# Altium schematic symbol library tinyCLUNX33.SchLib: 4 symbols
Pins are listed as number, name and electrical type; pins without a type are passive.

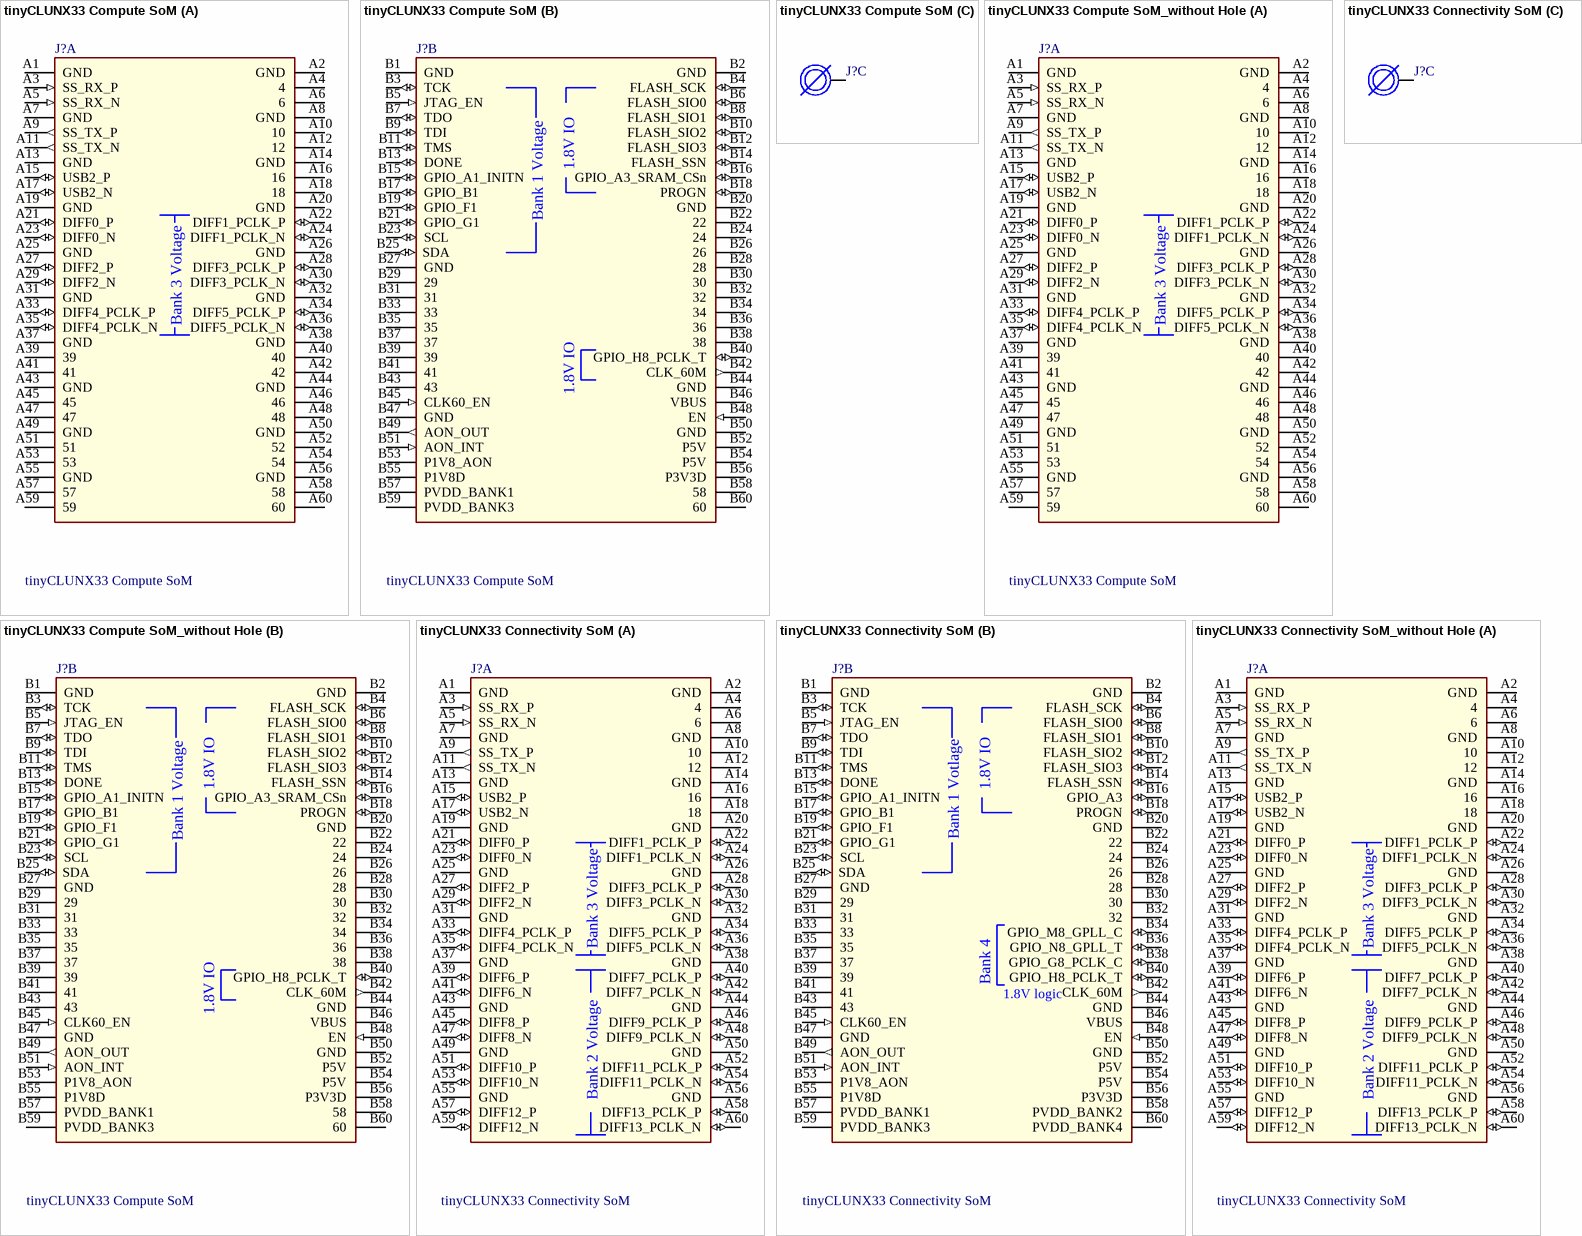
[diagram p0: symbols tinyCLUNX33 Compute SoM to tinyCLUNX33 Connectivity SoM_without Hole]

## tinyCLUNX33 Compute SoM
designator J?
Manufacturer: Hirose; Manufacturer Part Number: DF40C-60DS-0.4V(51); Connector Type: Receptacle; Number of Positions: 60; Current Rating: 300mA; Voltage Rating: 30V; Pitch: 0.4mm; Mated Stacking Heights: 1.5mm; Supplier 1: Digi-Key; Supplier Part Number 1: 26-DF40C-60DS-0.4V(51)CT-ND; RoHS: Yes; Category: Headers and Wire Housings; Stock: 11621; Pricing: 1=1.29000, 10=1.08900, 25=1.04440, 50=1.02220, 100=0.97770, 250=0.88880, 500=0.79992, 1000=0.71104, 2500=0.64438 (USD); Mounting Technology: Surface Mount; Contact Plating: Gold; Contact Material: Bronze; Housing Material: Polymer; Package Quantity: 5000; Number of Rows: 2; Packaging: Tape and Reel; Series: DF40; Termination: SMD/SMT; Number of Contacts: 60; Gender: Receptacle; RoHS Compliant: Yes; Lead Free: Lead Free; Reach SVHC Compliant: No; Quantity: 2
footprint SoM Compute
part A pins: A1 GND, A2 GND, A3 SS_RX_P (in), A4 4, A5 SS_RX_N (in), A6 6, A7 GND, A8 GND, A9 SS_TX_P (out), A10 10, A11 SS_TX_N (out), A12 12, A13 GND, A14 GND, A15 USB2_P (io), A16 16, A17 USB2_N (io), A18 18, A19 GND, A20 GND, A21 DIFF0_P (io), A22 DIFF1_PCLK_P (io), A23 DIFF0_N (io), A24 DIFF1_PCLK_N (io), A25 GND, A26 GND, A27 DIFF2_P (io), A28 DIFF3_PCLK_P (io), A29 DIFF2_N (io), A30 DIFF3_PCLK_N (io), A31 GND, A32 GND, A33 DIFF4_PCLK_P (io), A34 DIFF5_PCLK_P (io), A35 DIFF4_PCLK_N (io), A36 DIFF5_PCLK_N (io), A37 GND, A38 GND, A39 39, A40 40, A41 41, A42 42, A43 GND, A44 GND, A45 45, A46 46, A47 47, A48 48, A49 GND, A50 GND, A51 51, A52 52, A53 53, A54 54, A55 GND, A56 GND, A57 57, A58 58, A59 59, A60 60
part B pins: B1 GND, B2 GND, B3 TCK (io), B4 FLASH_SCK (io), B5 JTAG_EN (in), B6 FLASH_SIO0 (io), B7 TDO (io), B8 FLASH_SIO1 (io), B9 TDI (io), B10 FLASH_SIO2 (io), B11 TMS (io), B12 FLASH_SIO3 (io), B13 DONE (io), B14 FLASH_SSN (io), B15 GPIO_A1_INITN (io), B16 GPIO_A3_SRAM_CSn (io), B17 GPIO_B1 (io), B18 PROGN (io), B19 GPIO_F1 (io), B20 GND, B21 GPIO_G1 (io), B22 22, B23 SCL (io), B24 24, B25 SDA (io), B26 26, B27 GND, B28 28, B29 29, B30 30, B31 31, B32 32, B33 33, B34 34, B35 35, B36 36, B37 37, B38 38, B39 39, B40 GPIO_H8_PCLK_T (io), B41 41, B42 CLK_60M (out), B43 43, B44 GND, B45 CLK60_EN (in), B46 VBUS (power), B47 GND, B48 EN (in), B49 AON_OUT (out), B50 GND, B51 AON_INT (in), B52 P5V (power), B53 P1V8_AON (power), B54 P5V (power), B55 P1V8D (power), B56 P3V3D (power), B57 PVDD_BANK1 (power), B58 58, B59 PVDD_BANK3 (power), B60 60
part C pins: SoM_MH MH
part A text: Bank 3 Voltage
part B text: 1.8V IO; Bank 1 Voltage

## tinyCLUNX33 Compute SoM_without Hole
designator J?, comment tinyCLUNX33 Compute SoM
Manufacturer: Hirose; Manufacturer Part Number: DF40C-60DS-0.4V(51); Connector Type: Receptacle; Number of Positions: 60; Current Rating: 300mA; Voltage Rating: 30V; Pitch: 0.4mm; Mated Stacking Heights: 1.5mm; Supplier 1: Digi-Key; Supplier Part Number 1: 26-DF40C-60DS-0.4V(51)CT-ND; RoHS: Yes; Category: Headers and Wire Housings; Stock: 11621; Pricing: 1=1.29000, 10=1.08900, 25=1.04440, 50=1.02220, 100=0.97770, 250=0.88880, 500=0.79992, 1000=0.71104, 2500=0.64438 (USD); Mounting Technology: Surface Mount; Contact Plating: Gold; Contact Material: Bronze; Housing Material: Polymer; Package Quantity: 5000; Number of Rows: 2; Packaging: Tape and Reel; Series: DF40; Termination: SMD/SMT; Number of Contacts: 60; Gender: Receptacle; RoHS Compliant: Yes; Lead Free: Lead Free; Reach SVHC Compliant: No; Quantity: 2
footprint SoM Compute_without Hole
part A pins: A1 GND, A2 GND, A3 SS_RX_P (in), A4 4, A5 SS_RX_N (in), A6 6, A7 GND, A8 GND, A9 SS_TX_P (out), A10 10, A11 SS_TX_N (out), A12 12, A13 GND, A14 GND, A15 USB2_P (io), A16 16, A17 USB2_N (io), A18 18, A19 GND, A20 GND, A21 DIFF0_P (io), A22 DIFF1_PCLK_P (io), A23 DIFF0_N (io), A24 DIFF1_PCLK_N (io), A25 GND, A26 GND, A27 DIFF2_P (io), A28 DIFF3_PCLK_P (io), A29 DIFF2_N (io), A30 DIFF3_PCLK_N (io), A31 GND, A32 GND, A33 DIFF4_PCLK_P (io), A34 DIFF5_PCLK_P (io), A35 DIFF4_PCLK_N (io), A36 DIFF5_PCLK_N (io), A37 GND, A38 GND, A39 39, A40 40, A41 41, A42 42, A43 GND, A44 GND, A45 45, A46 46, A47 47, A48 48, A49 GND, A50 GND, A51 51, A52 52, A53 53, A54 54, A55 GND, A56 GND, A57 57, A58 58, A59 59, A60 60
part B pins: B1 GND, B2 GND, B3 TCK (io), B4 FLASH_SCK (io), B5 JTAG_EN (in), B6 FLASH_SIO0 (io), B7 TDO (io), B8 FLASH_SIO1 (io), B9 TDI (io), B10 FLASH_SIO2 (io), B11 TMS (io), B12 FLASH_SIO3 (io), B13 DONE (io), B14 FLASH_SSN (io), B15 GPIO_A1_INITN (io), B16 GPIO_A3_SRAM_CSn (io), B17 GPIO_B1 (io), B18 PROGN (io), B19 GPIO_F1 (io), B20 GND, B21 GPIO_G1 (io), B22 22, B23 SCL (io), B24 24, B25 SDA (io), B26 26, B27 GND, B28 28, B29 29, B30 30, B31 31, B32 32, B33 33, B34 34, B35 35, B36 36, B37 37, B38 38, B39 39, B40 GPIO_H8_PCLK_T (io), B41 41, B42 CLK_60M (out), B43 43, B44 GND, B45 CLK60_EN (in), B46 VBUS (power), B47 GND, B48 EN (in), B49 AON_OUT (out), B50 GND, B51 AON_INT (in), B52 P5V (power), B53 P1V8_AON (power), B54 P5V (power), B55 P1V8D (power), B56 P3V3D (power), B57 PVDD_BANK1 (power), B58 58, B59 PVDD_BANK3 (power), B60 60
part A text: Bank 3 Voltage
part B text: 1.8V IO; Bank 1 Voltage

## tinyCLUNX33 Connectivity SoM
designator J?
Manufacturer: Hirose; Manufacturer Part Number: DF40C-60DS-0.4V(51); Connector Type: Receptacle; Number of Positions: 60; Current Rating: 300mA; Voltage Rating: 30V; Pitch: 0.4mm; Mated Stacking Heights: 1.5mm; Supplier 1: Digi-Key; Supplier Part Number 1: 26-DF40C-60DS-0.4V(51)CT-ND; RoHS: Yes; Category: Headers and Wire Housings; Stock: 11621; Pricing: 1=1.29000, 10=1.08900, 25=1.04440, 50=1.02220, 100=0.97770, 250=0.88880, 500=0.79992, 1000=0.71104, 2500=0.64438 (USD); Mounting Technology: Surface Mount; Contact Plating: Gold; Contact Material: Bronze; Housing Material: Polymer; Package Quantity: 5000; Number of Rows: 2; Packaging: Tape and Reel; Series: DF40; Termination: SMD/SMT; Number of Contacts: 60; Gender: Receptacle; RoHS Compliant: Yes; Lead Free: Lead Free; Reach SVHC Compliant: No; Quantity: 2
footprint SoM Connectivity
part A pins: A1 GND, A2 GND, A3 SS_RX_P (in), A4 4, A5 SS_RX_N (in), A6 6, A7 GND, A8 GND, A9 SS_TX_P (out), A10 10, A11 SS_TX_N (out), A12 12, A13 GND, A14 GND, A15 USB2_P (io), A16 16, A17 USB2_N (io), A18 18, A19 GND, A20 GND, A21 DIFF0_P (io), A22 DIFF1_PCLK_P (io), A23 DIFF0_N (io), A24 DIFF1_PCLK_N (io), A25 GND, A26 GND, A27 DIFF2_P (io), A28 DIFF3_PCLK_P (io), A29 DIFF2_N (io), A30 DIFF3_PCLK_N (io), A31 GND, A32 GND, A33 DIFF4_PCLK_P (io), A34 DIFF5_PCLK_P (io), A35 DIFF4_PCLK_N (io), A36 DIFF5_PCLK_N (io), A37 GND, A38 GND, A39 DIFF6_P (io), A40 DIFF7_PCLK_P (io), A41 DIFF6_N (io), A42 DIFF7_PCLK_N (io), A43 GND, A44 GND, A45 DIFF8_P (io), A46 DIFF9_PCLK_P (io), A47 DIFF8_N (io), A48 DIFF9_PCLK_N (io), A49 GND, A50 GND, A51 DIFF10_P (io), A52 DIFF11_PCLK_P (io), A53 DIFF10_N (io), A54 DIFF11_PCLK_N (io), A55 GND, A56 GND, A57 DIFF12_P (io), A58 DIFF13_PCLK_P (io), A59 DIFF12_N (io), A60 DIFF13_PCLK_N (io)
part B pins: B1 GND, B2 GND, B3 TCK (io), B4 FLASH_SCK (io), B5 JTAG_EN (in), B6 FLASH_SIO0 (io), B7 TDO (io), B8 FLASH_SIO1 (io), B9 TDI (io), B10 FLASH_SIO2 (io), B11 TMS (io), B12 FLASH_SIO3 (io), B13 DONE (io), B14 FLASH_SSN (io), B15 GPIO_A1_INITN (io), B16 GPIO_A3 (io), B17 GPIO_B1 (io), B18 PROGN (io), B19 GPIO_F1 (io), B20 GND, B21 GPIO_G1 (io), B22 22, B23 SCL (io), B24 24, B25 SDA (io), B26 26, B27 GND, B28 28, B29 29, B30 30, B31 31, B32 32, B33 33, B34 GPIO_M8_GPLL_C (io), B35 35, B36 GPIO_N8_GPLL_T (io), B37 37, B38 GPIO_G8_PCLK_C (io), B39 39, B40 GPIO_H8_PCLK_T (io), B41 41, B42 CLK_60M (out), B43 43, B44 GND, B45 CLK60_EN (in), B46 VBUS (power), B47 GND, B48 EN (in), B49 AON_OUT (out), B50 GND, B51 AON_INT (in), B52 P5V (power), B53 P1V8_AON (power), B54 P5V (power), B55 P1V8D (power), B56 P3V3D (power), B57 PVDD_BANK1 (power), B58 PVDD_BANK2 (power), B59 PVDD_BANK3 (power), B60 PVDD_BANK4 (power)
part C pins: SoM_MH MH
part A text: Bank 3 Voltage; Bank 2 Voltage
part B text: 1.8V IO; Bank 1 Votlage; Bank 4; 1.8V logic

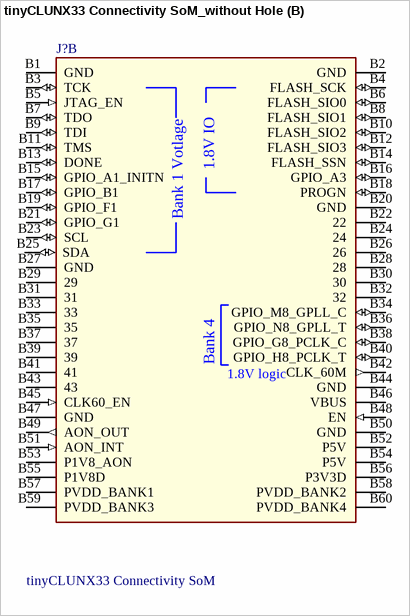
[diagram p1: symbol tinyCLUNX33 Connectivity SoM_without Hole]

## tinyCLUNX33 Connectivity SoM_without Hole
designator J?, comment tinyCLUNX33 Connectivity SoM
Manufacturer: Hirose; Manufacturer Part Number: DF40C-60DS-0.4V(51); Connector Type: Receptacle; Number of Positions: 60; Current Rating: 300mA; Voltage Rating: 30V; Pitch: 0.4mm; Mated Stacking Heights: 1.5mm; Supplier 1: Digi-Key; Supplier Part Number 1: 26-DF40C-60DS-0.4V(51)CT-ND; RoHS: Yes; Category: Headers and Wire Housings; Stock: 11621; Pricing: 1=1.29000, 10=1.08900, 25=1.04440, 50=1.02220, 100=0.97770, 250=0.88880, 500=0.79992, 1000=0.71104, 2500=0.64438 (USD); Mounting Technology: Surface Mount; Contact Plating: Gold; Contact Material: Bronze; Housing Material: Polymer; Package Quantity: 5000; Number of Rows: 2; Packaging: Tape and Reel; Series: DF40; Termination: SMD/SMT; Number of Contacts: 60; Gender: Receptacle; RoHS Compliant: Yes; Lead Free: Lead Free; Reach SVHC Compliant: No; Quantity: 2
footprint SoM Connectivity_without Hole
part A pins: A1 GND, A2 GND, A3 SS_RX_P (in), A4 4, A5 SS_RX_N (in), A6 6, A7 GND, A8 GND, A9 SS_TX_P (out), A10 10, A11 SS_TX_N (out), A12 12, A13 GND, A14 GND, A15 USB2_P (io), A16 16, A17 USB2_N (io), A18 18, A19 GND, A20 GND, A21 DIFF0_P (io), A22 DIFF1_PCLK_P (io), A23 DIFF0_N (io), A24 DIFF1_PCLK_N (io), A25 GND, A26 GND, A27 DIFF2_P (io), A28 DIFF3_PCLK_P (io), A29 DIFF2_N (io), A30 DIFF3_PCLK_N (io), A31 GND, A32 GND, A33 DIFF4_PCLK_P (io), A34 DIFF5_PCLK_P (io), A35 DIFF4_PCLK_N (io), A36 DIFF5_PCLK_N (io), A37 GND, A38 GND, A39 DIFF6_P (io), A40 DIFF7_PCLK_P (io), A41 DIFF6_N (io), A42 DIFF7_PCLK_N (io), A43 GND, A44 GND, A45 DIFF8_P (io), A46 DIFF9_PCLK_P (io), A47 DIFF8_N (io), A48 DIFF9_PCLK_N (io), A49 GND, A50 GND, A51 DIFF10_P (io), A52 DIFF11_PCLK_P (io), A53 DIFF10_N (io), A54 DIFF11_PCLK_N (io), A55 GND, A56 GND, A57 DIFF12_P (io), A58 DIFF13_PCLK_P (io), A59 DIFF12_N (io), A60 DIFF13_PCLK_N (io)
part B pins: B1 GND, B2 GND, B3 TCK (io), B4 FLASH_SCK (io), B5 JTAG_EN (in), B6 FLASH_SIO0 (io), B7 TDO (io), B8 FLASH_SIO1 (io), B9 TDI (io), B10 FLASH_SIO2 (io), B11 TMS (io), B12 FLASH_SIO3 (io), B13 DONE (io), B14 FLASH_SSN (io), B15 GPIO_A1_INITN (io), B16 GPIO_A3 (io), B17 GPIO_B1 (io), B18 PROGN (io), B19 GPIO_F1 (io), B20 GND, B21 GPIO_G1 (io), B22 22, B23 SCL (io), B24 24, B25 SDA (io), B26 26, B27 GND, B28 28, B29 29, B30 30, B31 31, B32 32, B33 33, B34 GPIO_M8_GPLL_C (io), B35 35, B36 GPIO_N8_GPLL_T (io), B37 37, B38 GPIO_G8_PCLK_C (io), B39 39, B40 GPIO_H8_PCLK_T (io), B41 41, B42 CLK_60M (out), B43 43, B44 GND, B45 CLK60_EN (in), B46 VBUS (power), B47 GND, B48 EN (in), B49 AON_OUT (out), B50 GND, B51 AON_INT (in), B52 P5V (power), B53 P1V8_AON (power), B54 P5V (power), B55 P1V8D (power), B56 P3V3D (power), B57 PVDD_BANK1 (power), B58 PVDD_BANK2 (power), B59 PVDD_BANK3 (power), B60 PVDD_BANK4 (power)
part A text: Bank 3 Voltage; Bank 2 Voltage
part B text: 1.8V IO; Bank 1 Votlage; Bank 4; 1.8V logic